# EAGLE library part TOUCH-24 (library T-Stick)
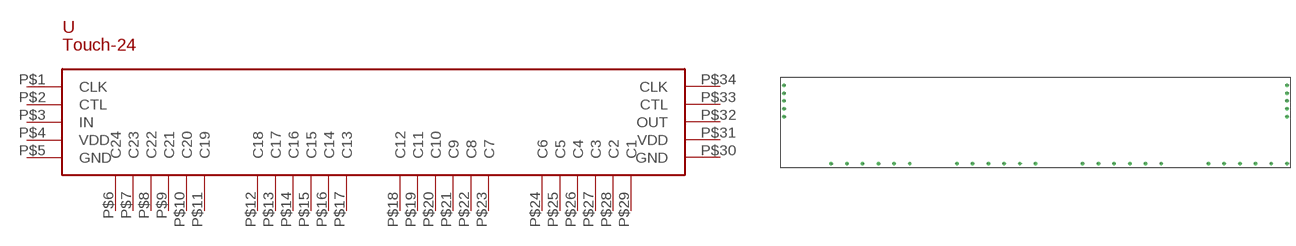
[diagram p0: symbol with the pads of TOUCH24; footprint TOUCH24]

Designator prefix -

## TOUCH-24TOUCH-24  [TOUCH24]
P$1  CLK
P$2  CTL
P$3  IN
P$4  VDD
P$5  GND
P$6  C24
P$7  C23
P$8  C22
P$9  C21
P$10  C20
P$11  C19
P$12  C18
P$13  C17
P$14  C16
P$15  C15
P$16  C14
P$17  C13
P$18  C12
P$19  C11
P$20  C10
P$21  C9
P$22  C8
P$23  C7
P$24  C6
P$25  C5
P$26  C4
P$27  C3
P$28  C2
P$29  C1
P$30  GND
P$31  VDD
P$32  OUT
P$33  CTL
P$34  CLK

## Footprint TOUCH24 (pad centres in mm)
drill 0.6: P$1 0,0; P$2 0,-2.54; P$3 0,-5.08; P$4 0,-7.62; P$5 0,-10.16; P$6 15.24,-25.4; P$7 20.32,-25.4; P$8 25.4,-25.4; P$9 30.48,-25.4; P$10 35.56,-25.4; P$11 40.64,-25.4; P$12 55.88,-25.4; P$13 60.96,-25.4; P$14 66.04,-25.4; P$15 71.12,-25.4; P$16 76.2,-25.4; P$17 81.28,-25.4; P$18 96.52,-25.4; P$19 101.6,-25.4; P$20 106.68,-25.4; P$21 111.76,-25.4; P$22 116.84,-25.4; P$23 121.92,-25.4; P$24 137.16,-25.4; P$25 142.24,-25.4; P$26 147.32,-25.4; P$27 152.4,-25.4; P$28 157.48,-25.4; P$29 162.56,-25.4; P$30 162.56,-10.16; P$31 162.56,-7.62; P$32 162.56,-5.08; P$33 162.56,-2.54; P$34 162.56,0